# Altium footprint library 1206 Resistors.PcbLib: 3 footprints
Each footprint in its own frame and in the unit in brackets; x right, y up, seen from the top. Pads: shape width x height; smd on the part's side, far side on the other; paste and mask are expansions set on the pad; w line width, h text height; cw(c..) or ccw(c..) is an arc to the next point about the centre after c.
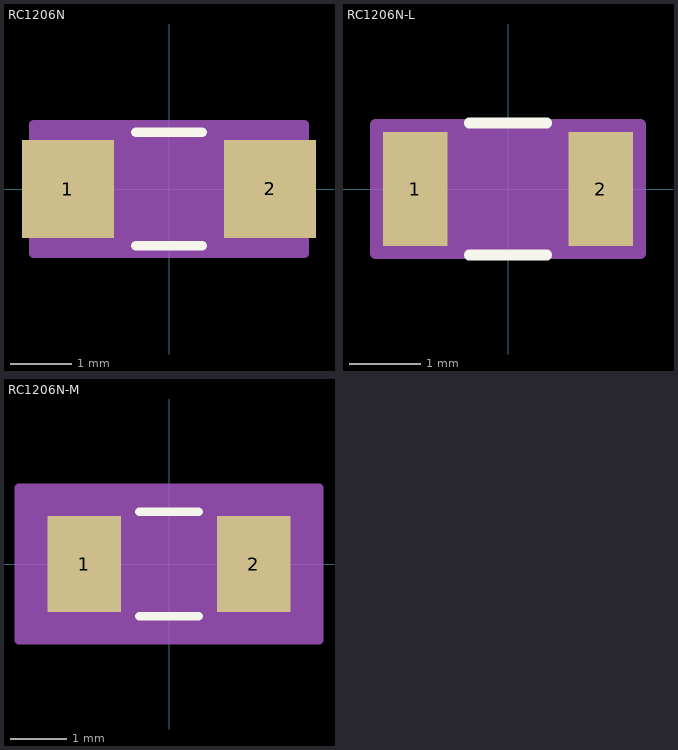
[diagram p0: the footprints below, top view; thin cyan lines are the x and y axes]

## RC1206N [mm]
pads (2):
  rect 1.5x1.6 smd paste+0 mask+0: 1(-1.65,0) 2(1.65,0)
Top Overlay:
  lines w0.152: -0.542,-0.927 0.542,-0.927 ; -0.542,0.927 0.542,0.927
Mechanical 13:
  lines w0.025: -1.6,-0.8 -1.6,0.8 ; -1.6,-0.8 1.6,-0.8 ; -1.6,-0.8 -0.85,-0.8 -0.85,0.8 -1.6,0.8 ; -1.6,-0.8 -1.6,0.8 ; -1.6,0.8 1.6,0.8 ; 1.6,-0.8 1.6,0.8 ; 1.6,-0.8 1.6,0.8 ; 1.6,-0.8 0.85,-0.8 0.85,0.8 1.6,0.8
Mechanical 15:
  region: 2.21,-1.054 -2.21,-1.054 -2.21,1.054 2.21,1.054
  lines w0.152: -2.21,-1.054 2.21,-1.054 2.21,1.054 -2.21,1.054 -2.21,-1.054
3D body "RC1206N.stp": height 0.71, standoff 0, extent -1.6,-0.8 1.6,0.8
3D body: height 0.25, standoff 0, extent 0,0 0.254,0.254

## RC1206N-L [mm]
pads (2):
  rect 0.902x1.6 smd paste+0 mask+0: 1(-1.301,0) 2(1.301,0)
Top Overlay:
  lines w0.152: -0.542,-0.927 0.542,-0.927 ; -0.542,0.927 0.542,0.927
Mechanical 13:
  lines w0.025: -1.6,-0.8 -1.6,0.8 ; -1.6,-0.8 -0.85,-0.8 -0.85,0.8 -1.6,0.8 ; -1.6,-0.8 1.6,-0.8 ; -1.6,-0.8 -1.6,0.8 ; -1.6,0.8 1.6,0.8 ; 1.6,-0.8 0.85,-0.8 0.85,0.8 1.6,0.8 ; 1.6,-0.8 1.6,0.8 ; 1.6,-0.8 1.6,0.8
Mechanical 15:
  region: 1.854,-0.902 -1.854,-0.902 -1.854,0.902 1.854,0.902
  lines w0.152: -1.854,-0.902 -1.854,0.902 1.854,0.902 1.854,-0.902 -1.854,-0.902
3D body: height 0.25, standoff 0, extent 0,0 0.254,0.254

## RC1206N-M [mm]
pads (2):
  rect 1.309x1.702 smd paste+0 mask+0: 1(-1.504,0) 2(1.504,0)
Top Overlay:
  lines w0.152: -0.526,-0.927 0.526,-0.927 ; -0.526,0.927 0.526,0.927
Mechanical 13:
  lines w0.025: -1.6,-0.8 -1.6,0.8 ; -1.6,-0.8 -0.85,-0.8 -0.85,0.8 -1.6,0.8 ; -1.6,-0.8 1.6,-0.8 ; -1.6,-0.8 -1.6,0.8 ; -1.6,0.8 1.6,0.8 ; 1.6,-0.8 0.85,-0.8 0.85,0.8 1.6,0.8 ; 1.6,-0.8 1.6,0.8 ; 1.6,-0.8 1.6,0.8
Mechanical 15:
  region: 2.667,-1.359 -2.667,-1.359 -2.667,1.359 2.667,1.359
  lines w0.152: -2.667,-1.359 -2.667,1.359 2.667,1.359 2.667,-1.359 -2.667,-1.359
3D body: height 0.25, standoff 0, extent 0,0 0.254,0.254